# EAGLE library part TXB0104 (library 3DRobotics_Master_Library)
TI TXB0104 4-Bit Bidirectional Voltage-Level Translator with Auto Direction Sensing This 4-bit noninverting translator uses two separate configurable power-supply rails. The A port is designed to track VCCA. VCCA accepts any supply voltage from 1.2 V to 3.6 V. The B port is designed to track VCCB. VCCB accepts any supply voltage from 1.65 V to 5.5 V. This allows for universal low-voltage bidirectional translation between any of the 1.2-V, 1.5-V, 1.8-V, 2.5-V, 3.3-V, and 5-V voltage nodes. VCCA should not exceed VCCB.
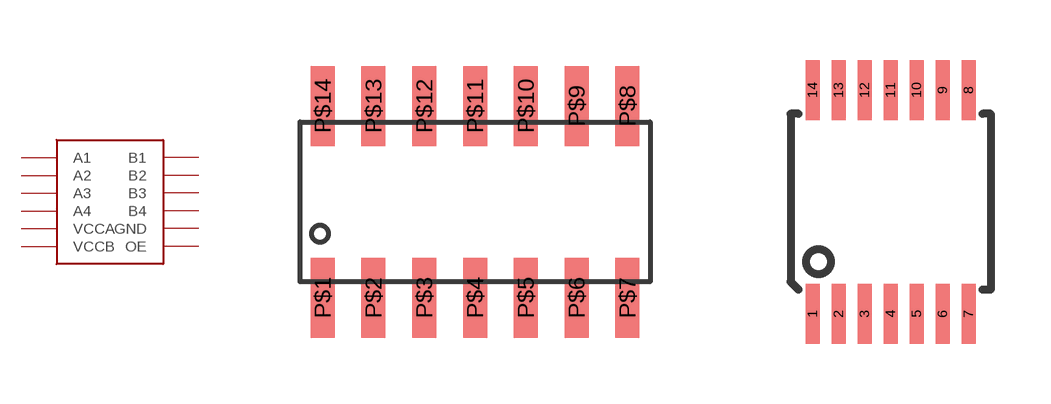
[diagram p15: symbol with the pads of TXB0104; footprints TXB0104, TSSOP14]

Designator prefix -

## TXB0104SOIC(D) (DATASHEET: http://focus.ti.com/lit/ds/symlink/txb0104.pdf; LINK: http://search.digikey.com/scripts/DkSearch/dksus.dll?Detail&name=296-21928-1-ND; MFGPN: TXB0104DR; PN: 296-21928-1-ND)  [TXB0104]
P$1  VCCA
P$2  A1
P$3  A2
P$4  A3
P$5  A4
P$7  GND
P$8  OE
P$10  B4
P$11  B3
P$12  B2
P$13  B1
P$14  VCCB

## TXB0104TSSOP(PW) (DATASHEET: http://focus.ti.com/lit/ds/symlink/txb0104.pdf; MFGPN: TXB0104PWR)  [TSSOP14]
1  VCCA
2  A1
3  A2
4  A3
5  A4
7  GND
8  OE
10  B4
11  B3
12  B2
13  B1
14  VCCB

## Footprint TXB0104 (pad centres in mm)
smd 0.6 x 2: P$1 0.565,-0.4; P$2 1.835,-0.4; P$3 3.105,-0.4; P$4 4.375,-0.4; P$5 5.645,-0.4; P$6 6.915,-0.4; P$7 8.185,-0.4; P$8 8.185,4.4; P$9 6.915,4.4; P$10 5.645,4.4; P$11 4.375,4.4; P$12 3.105,4.4; P$13 1.835,4.4; P$14 0.565,4.4

## Footprint TSSOP14 (pad centres in mm)
TSSOP14 (Ti PW Package)
smd 0.35 x 1.5: 1 -1.95,-2.8; 2 -1.3,-2.8; 3 -0.65,-2.8; 4 0,-2.8; 5 0.65,-2.8; 6 1.3,-2.8; 7 1.95,-2.8; 8 1.95,2.8; 9 1.3,2.8; 10 0.65,2.8; 11 0,2.8; 12 -0.65,2.8; 13 -1.3,2.8; 14 -1.95,2.8